# EAGLE library part CON_SFH-20P (library Clean-Kong)
SHF-110-01-L-D-RA (RightAngle) SHF-110-01-L-D-TH (Through Hole) Right Angle : RS 901-1872 Droit : RS 901-1885
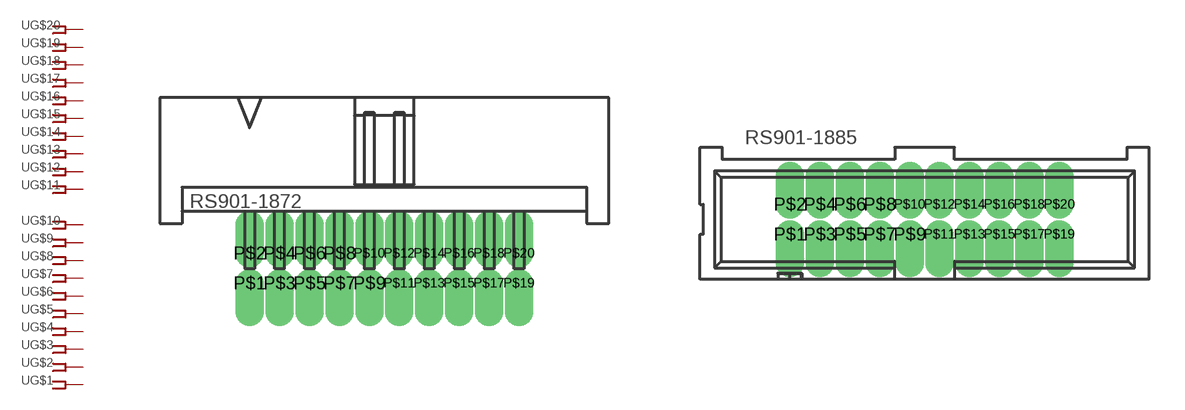
[diagram p26: symbol with the pads of SHF-110-01-L-D-RA; footprints SHF-110-01-L-D-RA, SHF-110-01-L-D-TH]

Designator prefix -; gates G$1=FPIN G$2=FPIN G$3=FPIN G$4=FPIN G$5=FPIN G$6=FPIN G$7=FPIN G$8=FPIN G$9=FPIN G$10=FPIN G$11=FPIN G$12=FPIN G$13=FPIN G$14=FPIN G$15=FPIN G$16=FPIN G$17=FPIN G$18=FPIN G$19=FPIN G$20=FPIN

## CON_SFH-20PSHF20RA  [SHF-110-01-L-D-RA]
P$1  G$1:1  pas
P$2  G$2:1  pas
P$3  G$3:1  pas
P$4  G$4:1  pas
P$5  G$5:1  pas
P$6  G$6:1  pas
P$7  G$7:1  pas
P$8  G$8:1  pas
P$9  G$9:1  pas
P$10  G$10:1  pas
P$11  G$11:1  pas
P$12  G$12:1  pas
P$13  G$13:1  pas
P$14  G$14:1  pas
P$15  G$15:1  pas
P$16  G$16:1  pas
P$17  G$17:1  pas
P$18  G$18:1  pas
P$19  G$19:1  pas
P$20  G$20:1  pas

## CON_SFH-20PSHF20TH  [SHF-110-01-L-D-TH]
Pads as for SHF-110-01-L-D-RA

## Footprint SHF-110-01-L-D-RA (pad centres in mm)
drill 0.7 pad 1.016 offset: P$1 0,0; P$2 0,1.27; P$3 1.27,0; P$4 1.27,1.27; P$5 2.54,0; P$6 2.54,1.27; P$7 3.81,0; P$8 3.81,1.27; P$9 5.08,0; P$10 5.08,1.27; P$11 6.35,0; P$12 6.35,1.27; P$13 7.62,0; P$14 7.62,1.27; P$15 8.89,0; P$16 8.89,1.27; P$17 10.16,0; P$18 10.16,1.27; P$19 11.43,0; P$20 11.43,1.27

## Footprint SHF-110-01-L-D-TH (pad centres in mm)
drill 0.7 pad 1.016 offset: P$1 0,0; P$2 0,1.27; P$3 1.27,0; P$4 1.27,1.27; P$5 2.54,0; P$6 2.54,1.27; P$7 3.81,0; P$8 3.81,1.27; P$9 5.08,0; P$10 5.08,1.27; P$11 6.35,0; P$12 6.35,1.27; P$13 7.62,0; P$14 7.62,1.27; P$15 8.89,0; P$16 8.89,1.27; P$17 10.16,0; P$18 10.16,1.27; P$19 11.43,0; P$20 11.43,1.27